# EAGLE library part LT3494AEDDB#TRMPBF (library circuit_tree)
IC
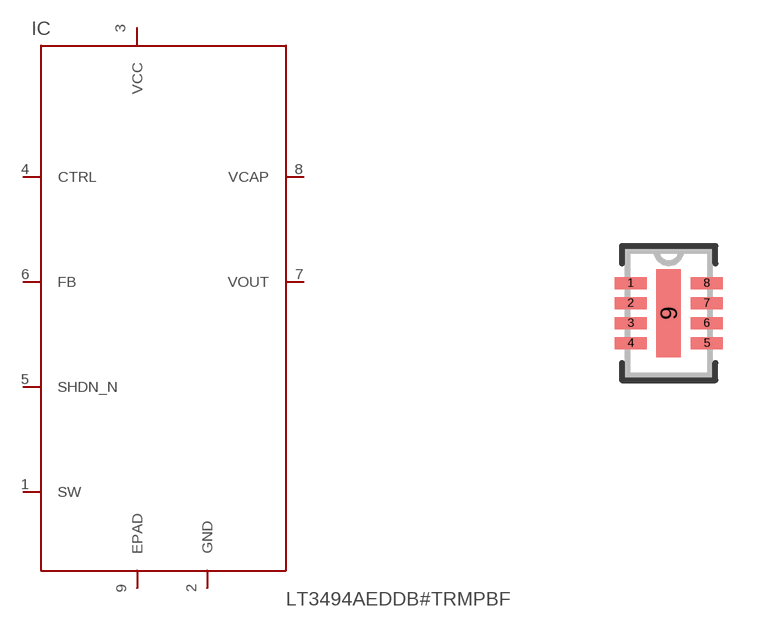
[diagram p7: symbol with the pads of DFN-8_DDB; footprint DFN-8_DDB]

Designator prefix IC

## LT3494AEDDB#TRMPBF  [DFN-8_DDB]
1  SW  pas
2  GND  pas
3  VCC  pas
4  CTRL  pas
5  SHDN_N  pas
6  FB  pas
7  VOUT  pas
8  VCAP  pas
9  EPAD  pas

## Footprint DFN-8_DDB (pad centres in mm)
smd 0.805 x 0.3: 1 -0.952,0.75; 2 -0.952,0.25; 3 -0.952,-0.25; 4 -0.952,-0.75; 5 0.952,-0.75; 6 0.952,-0.25; 7 0.952,0.25; 8 0.952,0.75
smd 0.61 x 2.2: 9 0,0